# Altium footprint library Littelfuse.PcbLib: 1 footprints
Each footprint in its own frame and in the unit in brackets; x right, y up, seen from the top. Pads: shape width x height; smd on the part's side, far side on the other; paste and mask are expansions set on the pad; w line width, h text height; cw(c..) or ccw(c..) is an arc to the next point about the centre after c.
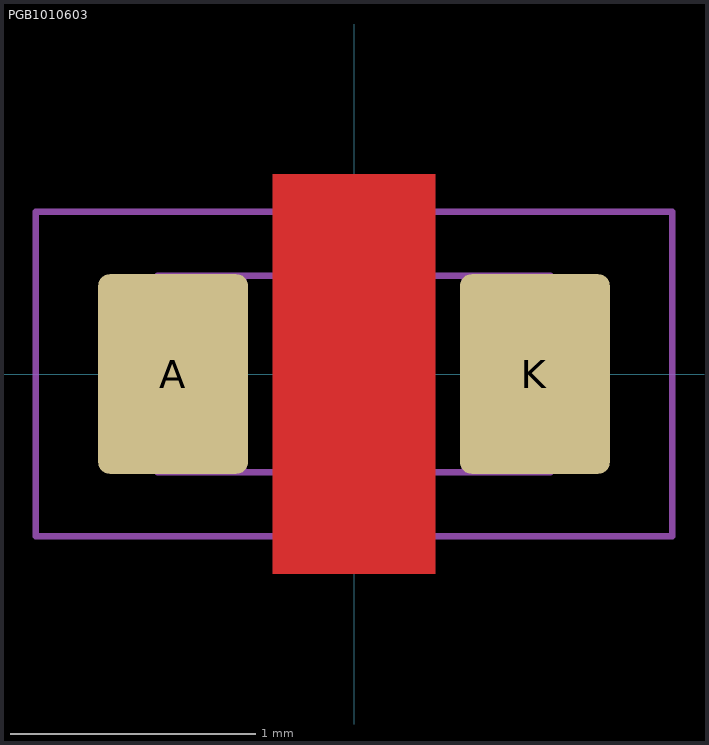
[diagram p0: the footprint, top view; thin cyan lines are the x and y axes]

## PGB1010603 [mil]
pads (2):
  rrect15% 24x32 smd paste-2 mask+2: A(-29,0) K(29,0)
Top Layer:
  pour cut-out: -13,32 13,32 13,-32 -13,-32
Top Solder:
  rectangle: -8,-27 8,27
Top Designator:
  text ".Designator" at -91.17,-8.93 h25
Top Courtyard:
  lines w1: -51,-26 -51,26 51,26 51,-26 -51,-26
Top Component Outline:
  lines w1: -17.72,-15.75 -17.72,15.75 ; 17.72,-15.75 17.72,15.75 ; -31.5,-15.75 -31.5,15.75 31.5,15.75 31.5,-15.75 -31.5,-15.75
3D body: height 19, standoff 0, extent -32,-15 -18,15
3D body: height 18, standoff 17, extent -15,-15 15,15
3D body: height 17, standoff 0.2, extent -31.5,-15.75 31.5,15.75
3D body: height 19, standoff 0, extent 18,-15 32,15